# Altium schematic symbol library A4988.SchLib: 1 symbol
Pins are listed as number, name and electrical type; pins without a type are passive.

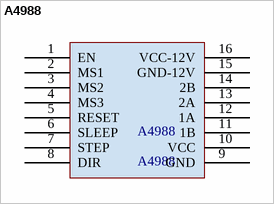
[diagram p0: symbol A4988]

## A4988
designator A4988
footprint A4988
pins: 1 EN, 2 MS1, 3 MS2, 4 MS3, 5 RESET, 6 SLEEP, 7 STEP, 8 DIR, 9 GND, 10 VCC, 11 1B, 12 1A, 13 2A, 14 2B, 15 GND-12V, 16 VCC-12V